# Altium footprint library TempPCBs.pcblib: 6 footprints
Each footprint in its own frame and in the unit in brackets; x right, y up, seen from the top. Pads: shape width x height; smd on the part's side, far side on the other; paste and mask are expansions set on the pad; w line width, h text height; cw(c..) or ccw(c..) is an arc to the next point about the centre after c.
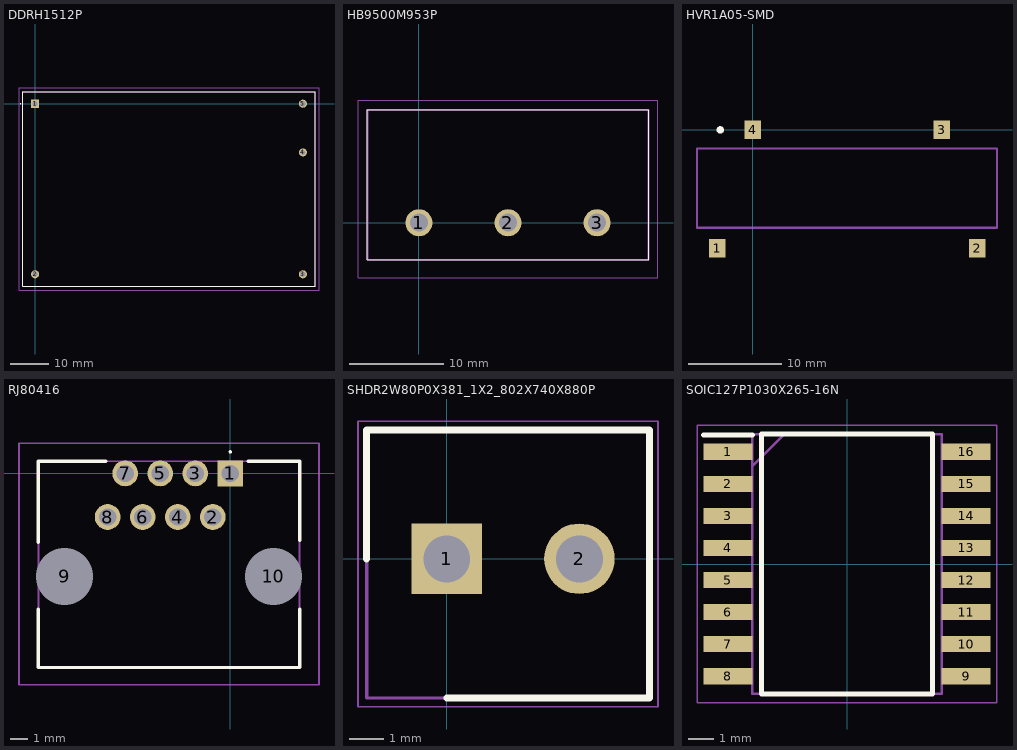
[diagram p0: the footprints below, top view; thin cyan lines are the x and y axes]

## DDRH1512P [mm]
pads (5):
  rect 2.1x2.1 hole 1.4: 1(0,0)
  round 2.1 hole 1.4: 2(0,-44.45) 3(69.85,-44.45) 4(69.85,-12.7) 5(69.85,0)
Top Overlay:
  lines w0.1: -3.8,0 cw(c-3.75,0) -3.7,0 cw(c-3.75,0) -3.8,0
  lines w0.2: -3.175,-47.625 73.025,-47.625 73.025,3.175 -3.175,3.175 -3.175,-47.625
Mechanical 13:
  lines w0.1: -3.175,-47.625 73.025,-47.625 73.025,3.175 -3.175,3.175 -3.175,-47.625
Mechanical 15:
  lines w0.1: -4.175,-48.625 74.025,-48.625 74.025,4.175 -4.175,4.175 -4.175,-48.625
3D body "DDRH-15-12P.stp": height 25.13, standoff -5, extent -3.175,-47.625 73.025,3.175

## HB9500M953P [mm]
pads (3):
  round 2.883 hole 1.92: 1(0,0) 2(9.5,0) 3(19,0)
Top Overlay:
  lines w0.1: -5.5,-3.95 24.5,-3.95 24.5,12.05 -5.5,12.05 -5.5,-3.95
Mechanical 13:
  lines w0.2: -5.5,-3.95 24.5,-3.95 24.5,12.05 -5.5,12.05 -5.5,-3.95
Mechanical 15:
  lines w0.1: -6.5,-5.85 25.5,-5.85 25.5,13.05 -6.5,13.05 -6.5,-5.85
3D body "HB9500M-9.5-3P.stp": height 13.3, standoff -5, extent -5.5,-3.95 24.5,12.05

## HVR1A05-SMD [mm]
pads (4):
  rect 1.8x2 smd: 1(-3.82,-12.7) 2(24.12,-12.7) 3(20.3,0) 4(0,0)
Top Overlay:
  circle w0.4: c-3.5,0 r0.2
Mechanical 1:
  lines w0.254: -6,-10.5 26.25,-10.5 26.25,-2 -6,-2 -6,-10.5
3D body: height 8.8, standoff 0, extent -6,-10.5 26.25,-2
3D body: height 0.2, standoff 0, extent -4.7,-13.75 -3,-10.5
3D body: height 0.2, standoff 0, extent 23.24,-13.75 24.94,-10.5
3D body: height 0.2, standoff 0, extent 19.48,-2.2 21.18,1.05
3D body: height 0.2, standoff 0, extent -0.82,-2.2 0.88,1.05

## RJ80416 [mm]
pads (10):
  rect 1.5x1.5 hole 1: 1(0,0)
  round 1.5 hole 1: 2(-1.02,-2.54) 3(-2.04,0) 4(-3.06,-2.54) 5(-4.08,0) 6(-5.1,-2.54) 7(-6.12,0) 8(-7.14,-2.54)
  round 1.65 hole 3.3 unplated: 9(-9.65,-6) 10(2.51,-6)
Top Overlay:
  lines w0.1: 0,1.2 cw(c0,1.25) 0,1.3 cw(c0,1.25) 0,1.2
  lines w0.2: -11.17,-7.9 -11.17,-11.3 4.03,-11.3 4.03,-7.9 ; -11.17,-4 -11.17,0.7 -7.25,0.7 ; 1.03,0.7 4.03,0.7 4.03,-3.9
Mechanical 13:
  lines w0.1: -11.17,-11.3 -11.17,0.7 4.03,0.7 4.03,-11.3 -11.17,-11.3
Mechanical 15:
  lines w0.1: -12.3,-12.3 -12.3,1.75 5.16,1.75 5.16,-12.3 -12.3,-12.3
3D body "RJ-804-1-6.stp": height 11.8, standoff -5, extent -11.2,-11.3 4.06,0.7

## SHDR2W80P0X381_1X2_802X740X880P [mm]
pads (2):
  rect 2.025x2.025 hole 1.35: 1(0,0)
  round 2.025 hole 1.35: 2(3.81,0)
Top Overlay:
  lines w0.2: -2.3,0 -2.3,3.7 5.82,3.7 5.82,-4 0,-4
Mechanical 13:
  lines w0.1: -2.3,-4 -2.3,3.7 5.82,3.7 5.82,-4 -2.3,-4
Mechanical 15:
  lines w0.05: -2.55,-4.25 -2.55,3.95 6.07,3.95 6.07,-4.25 -2.55,-4.25
3D body "DB125-3.81-2P.stp": height 8.8, standoff -4, extent -2.1,-4 5.92,3.4

## SOIC127P1030X265-16N [mm]
pads (16):
  rect 1.95x0.65 smd: 1(-4.725,4.445) 2(-4.725,3.175) 3(-4.725,1.905) 4(-4.725,0.635) 5(-4.725,-0.635) 6(-4.725,-1.905) 7(-4.725,-3.175) 8(-4.725,-4.445) 9(4.725,-4.445) 10(4.725,-3.175) 11(4.725,-1.905) 12(4.725,-0.635) 13(4.725,0.635) 14(4.725,1.905) 15(4.725,3.175) 16(4.725,4.445)
Top Overlay:
  lines w0.2: -5.7,5.12 -3.75,5.12 ; -3.4,-5.15 -3.4,5.15 3.4,5.15 3.4,-5.15 -3.4,-5.15
Mechanical 13:
  lines w0.1: -3.75,3.88 -2.48,5.15 ; -3.75,-5.15 -3.75,5.15 3.75,5.15 3.75,-5.15 -3.75,-5.15
Mechanical 15:
  lines w0.05: -5.95,-5.5 -5.95,5.5 5.95,5.5 5.95,-5.5 -5.95,-5.5
3D body "AMC3330QDWERQ1.stp": height 2.59, standoff 0, extent -5.167,-5.15 5.167,5.15